# Altium footprint library ds1013_06rsib_b_0.PcbLib: 1 footprints
Each footprint in its own frame and in the unit in brackets; x right, y up, seen from the top. Pads: shape width x height; smd on the part's side, far side on the other; paste and mask are expansions set on the pad; w line width, h text height; cw(c..) or ccw(c..) is an arc to the next point about the centre after c.
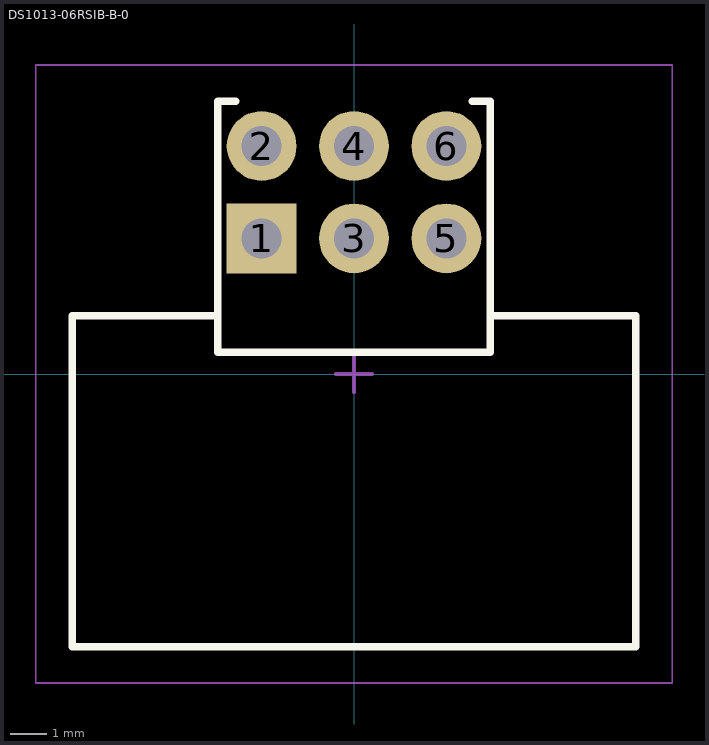
[diagram p0: the footprint, top view; thin cyan lines are the x and y axes]

## DS1013-06RSIB-B-0 [mm] "BH 6 pins 2,54mm Plug Header R/A Type"
height 9.1
pads (6):
  rect 1.92x1.92 hole 1.1: 1(-2.54,3.73)
  round 1.92 hole 1.1: 2(-2.54,6.27) 3(0,3.73) 4(0,6.27) 5(2.54,3.73) 6(2.54,6.27)
Top Overlay:
  lines w0.2: -3.75,1.6 -7.75,1.6 -7.75,-7.5 7.75,-7.5 7.75,1.6 3.75,1.6 ; -3.25,7.5 -3.75,7.5 -3.75,0.6 3.75,0.6 3.75,7.5 3.25,7.5
Top Comment:
  text ".Comment" at 1.25,9 h1.2
Top Designator:
  text ".Designator" at -0.75,9 h1.2
Top Component Outline:
  lines w0.1: -7.75,-7.5 7.75,-7.5 7.75,1.6 3.75,1.6 3.75,0.6 -3.75,0.6 -3.75,1.6 -7.75,1.6 -7.75,-7.5
Top Courtyard (Mech15):
  lines w0.05: -8.75,-8.5 8.75,-8.5 8.75,8.5 -8.75,8.5 -8.75,-8.5
  lines w0.1: -0.5,0 0.5,0 ; 0,-0.5 0,0.5
3D body "DS1013-06RSiB-B-0.STEP": height 8.8, standoff -3, extent -7.71,-7.43 7.71,6.59